# Altium footprint library PcbLib1.PcbLib: 98 footprints (part 6 of 7)
Each footprint in its own frame and in the unit in brackets; x right, y up, seen from the top. Pads: shape width x height; smd on the part's side, far side on the other; paste and mask are expansions set on the pad; w line width, h text height; cw(c..) or ccw(c..) is an arc to the next point about the centre after c.
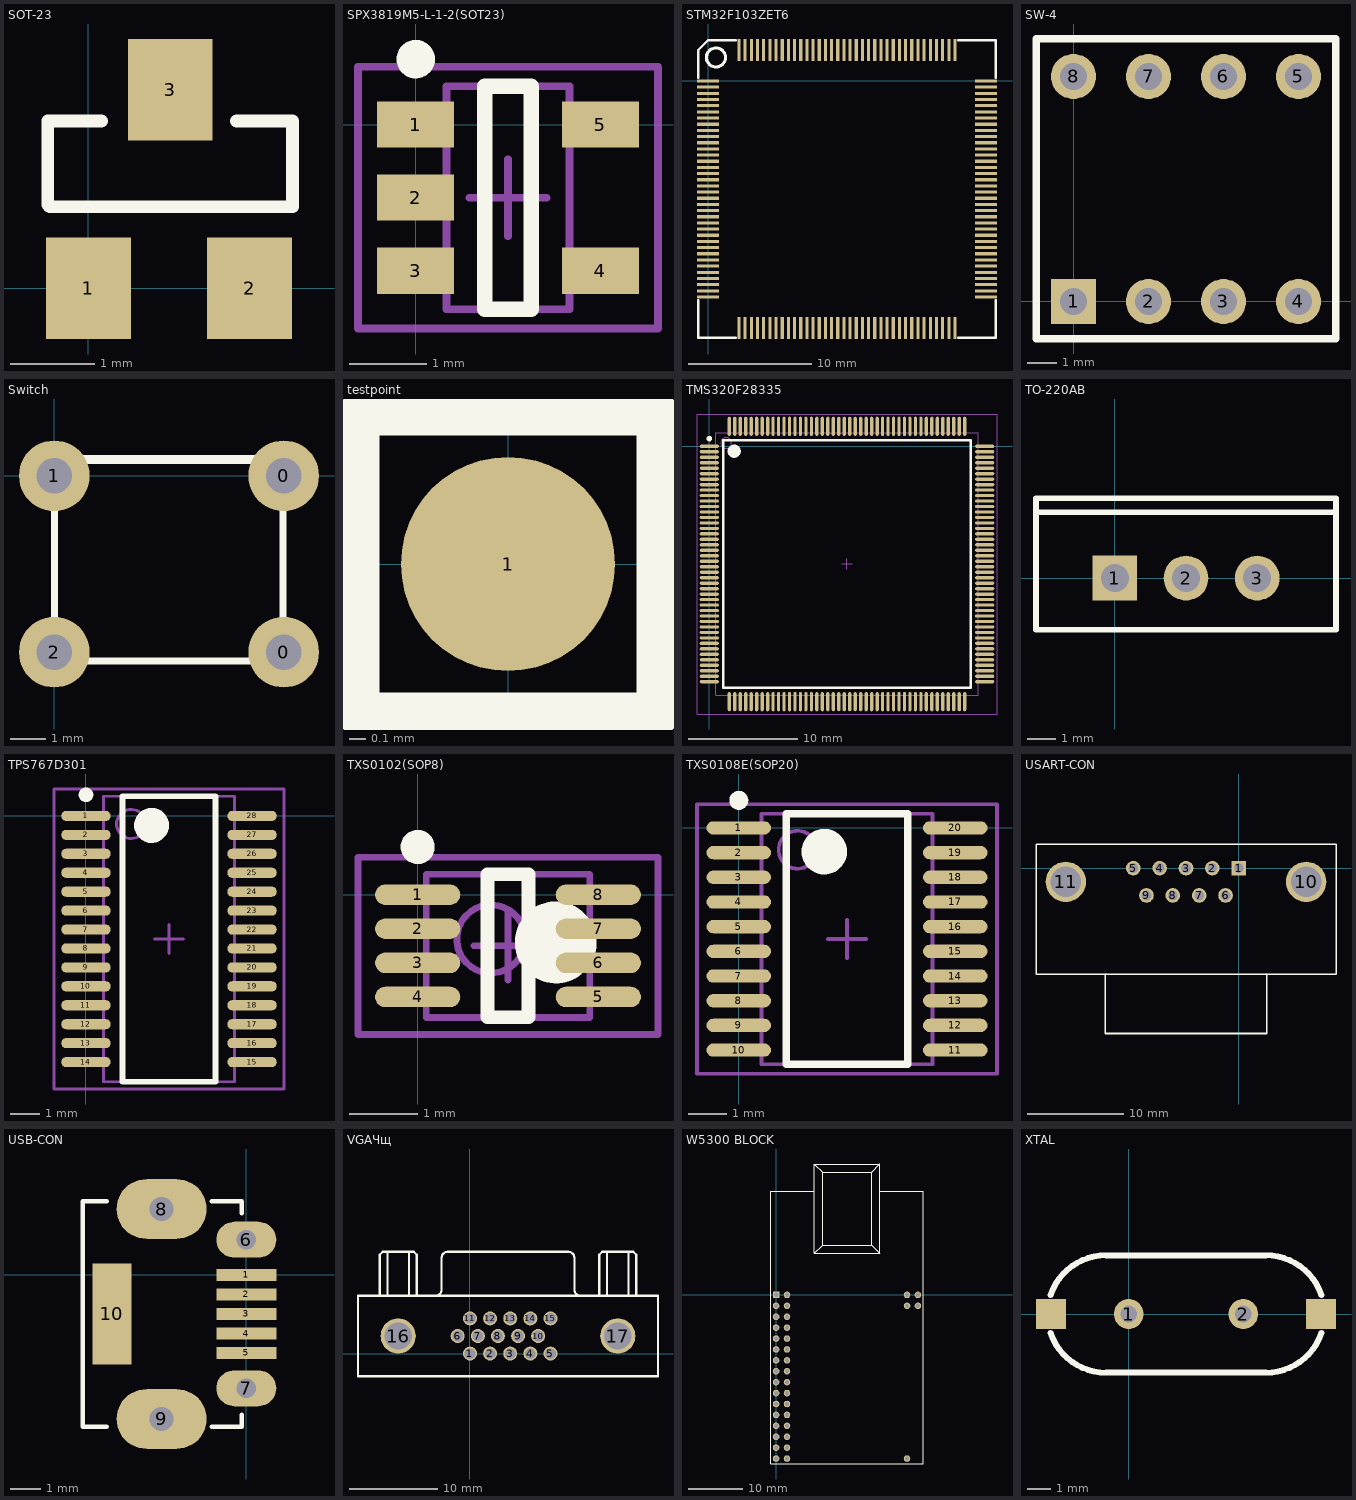
[diagram p5: the footprints below, top view; thin cyan lines are the x and y axes]

## SOT-23 [mm]
pads (3):
  rect 1x1.2 smd: 1(0,0) 2(1.905,0) 3(0.965,2.349)
Top Overlay:
  lines w0.152: 0.152,1.981 -0.483,1.981 -0.483,0.991 -0.457,0.965 2.413,0.965 2.413,1.981 1.753,1.981

## SPX3819M5-L-1-2(SOT23) [mm] "SOT23, 5-Leads, Body 2.9x2.8mm (max), Pitch 0.95mm, IPC Medium Density"
height 1.45
pads (5):
  rect 1x0.6 smd: 1(0,0) 2(0,-0.95) 3(0,-1.9) 4(2.4,-1.9) 5(2.4,0)
Top Overlay:
  circle w0.25: c0,0.85 r0.125
  lines w0.2: 0.9,-2.4 0.9,0.5 1.5,0.5 1.5,-2.4 0.9,-2.4
Mechanical 13:
  lines w0.1: 0.4,-2.4 2,-2.4 2,0.5 0.4,0.5 0.4,-2.4
Mechanical 15:
  lines w0.1: 0.7,-0.95 1.7,-0.95 ; 1.2,-1.45 1.2,-0.45 ; -0.75,-2.65 3.15,-2.65 3.15,0.75 -0.75,0.75 -0.75,-2.65
3D body: height 1.45, standoff 0, extent 0.4,-2.4 2,0.5

## STM32F103ZET6 [mm]
pads (144):
  rect 1.8x0.254 smd: 1(0,0) 2(0,-0.5) 3(0,-1) 4(0,-1.5) 5(0,-2) 6(0,-2.5) 7(0,-3) 8(0,-3.5) 9(0,-4) 10(0,-4.5) 11(0,-5) 12(0,-5.5) 13(0,-6) 14(0,-6.5) 15(0,-7) 16(0,-7.5) 17(0,-8) 18(0,-8.5) 19(0,-9) 20(0,-9.5) 21(0,-10) 22(0,-10.5) 23(0,-11) 24(0,-11.5) 25(0,-12) 26(0,-12.5) 27(0,-13) 28(0,-13.5) 29(0,-14) 30(0,-14.5) 31(0,-15) 32(0,-15.5) 33(0,-16) 34(0,-16.5) 35(0,-17) 36(0,-17.5) 73(22.5,-17.5) 74(22.5,-17) 75(22.5,-16.5) 76(22.5,-16) 77(22.5,-15.5) 78(22.5,-15) 79(22.5,-14.5) 80(22.5,-14) 81(22.5,-13.5) 82(22.5,-13) 83(22.5,-12.5) 84(22.5,-12) 85(22.5,-11.5) 86(22.5,-11) 87(22.5,-10.5) 88(22.5,-10) 89(22.5,-9.5) 90(22.5,-9) 91(22.5,-8.5) 92(22.5,-8) 93(22.5,-7.5) 94(22.5,-7) 95(22.5,-6.5) 96(22.5,-6) 97(22.5,-5.5) 98(22.5,-5) 99(22.5,-4.5) 100(22.5,-4) 101(22.5,-3.5) 102(22.5,-3) 103(22.5,-2.5) 104(22.5,-2) 105(22.5,-1.5) 106(22.5,-1) 107(22.5,-0.5) 108(22.5,0)
  rect 0.254x1.8 smd: 37(2.5,-20) 38(3,-20) 39(3.5,-20) 40(4,-20) 41(4.5,-20) 42(5,-20) 43(5.5,-20) 44(6,-20) 45(6.5,-20) 46(7,-20) 47(7.5,-20) 48(8,-20) 49(8.5,-20) 50(9,-20) 51(9.5,-20) 52(10,-20) 53(10.5,-20) 54(11,-20) 55(11.5,-20) 56(12,-20) 57(12.5,-20) 58(13,-20) 59(13.5,-20) 60(14,-20) 61(14.5,-20) 62(15,-20) 63(15.5,-20) 64(16,-20) 65(16.5,-20) 66(17,-20) 67(17.5,-20) 68(18,-20) 69(18.5,-20) 70(19,-20) 71(19.5,-20) 72(20,-20) 109(20,2.5) 110(19.5,2.5) 111(19,2.5) 112(18.5,2.5) 113(18,2.5) 114(17.5,2.5) 115(17,2.5) 116(16.5,2.5) 117(16,2.5) 118(15.5,2.5) 119(15,2.5) 120(14.5,2.5) 121(14,2.5) 122(13.5,2.5) 123(13,2.5) 124(12.5,2.5) 125(12,2.5) 126(11.5,2.5) 127(11,2.5) 128(10.5,2.5) 129(10,2.5) 130(9.5,2.5) 131(9,2.5) 132(8.5,2.5) 133(8,2.5) 134(7.5,2.5) 135(7,2.5) 136(6.5,2.5) 137(6,2.5) 138(5.5,2.5) 139(5,2.5) 140(4.5,2.5) 141(4,2.5) 142(3.5,2.5) 143(3,2.5) 144(2.5,2.5)
Top Overlay:
  circle w0.254: c0.634,1.904 r0.773
  lines w0.2: -0.8,-17.75 -0.8,-20.8 2.25,-20.8 ; -0.8,0.25 -0.8,2.5 0,3.3 2.25,3.3 ; 20.25,-20.8 23.3,-20.8 23.3,-17.75 ; 20.25,3.3 23.3,3.3 23.3,0.25

## SW-4 [mil]
pads (8):
  rect 60x60 hole 36: 1(0,0)
  round 60 hole 36: 2(100,0) 3(200,0) 4(300,0) 5(300,300) 6(200,300) 7(100,300) 8(0,300)
Top Overlay:
  lines w10: -50,-50 -50,350 350,350 350,-50 -50,-50

## Switch [mm]
pads (4):
  round 2 hole 1: 0(6.5,-5) 0(6.5,0) 1(0,0) 2(0,-5)
Top Overlay:
  lines w0.2: 0,0.461 0,-5.254 6.477,-5.254 6.477,0.461
  lines w0.254: 0,0.461 6.477,0.461

## testpoint [mm]
pads (1):
  round 1.27 smd: 1(0,0)
Top Overlay:
  lines w0.254: -0.889,-0.889 0.889,-0.889 0.889,0.889 -0.889,0.889 -0.889,-0.889

## TMS320F28335 [mm] "TSQFP, 176-Leads, Body 26.2x26.2mm (max), Pitch 0.50mm, IPC Medium Density"
height 1.6
pads (176):
  oval 1.75x0.3 smd: 1(0,0) 2(0,-0.5) 3(0,-1) 4(0,-1.5) 5(0,-2) 6(0,-2.5) 7(0,-3) 8(0,-3.5) 9(0,-4) 10(0,-4.5) 11(0,-5) 12(0,-5.5) 13(0,-6) 14(0,-6.5) 15(0,-7) 16(0,-7.5) 17(0,-8) 18(0,-8.5) 19(0,-9) 20(0,-9.5) 21(0,-10) 22(0,-10.5) 23(0,-11) 24(0,-11.5) 25(0,-12) 26(0,-12.5) 27(0,-13) 28(0,-13.5) 29(0,-14) 30(0,-14.5) 31(0,-15) 32(0,-15.5) 33(0,-16) 34(0,-16.5) 35(0,-17) 36(0,-17.5) 37(0,-18) 38(0,-18.5) 39(0,-19) 40(0,-19.5) 41(0,-20) 42(0,-20.5) 43(0,-21) 44(0,-21.5) 89(25.15,-21.5) 90(25.15,-21) 91(25.15,-20.5) 92(25.15,-20) 93(25.15,-19.5) 94(25.15,-19) 95(25.15,-18.5) 96(25.15,-18) 97(25.15,-17.5) 98(25.15,-17) 99(25.15,-16.5) 100(25.15,-16) 101(25.15,-15.5) 102(25.15,-15) 103(25.15,-14.5) 104(25.15,-14) 105(25.15,-13.5) 106(25.15,-13) 107(25.15,-12.5) 108(25.15,-12) 109(25.15,-11.5) 110(25.15,-11) 111(25.15,-10.5) 112(25.15,-10) 113(25.15,-9.5) 114(25.15,-9) 115(25.15,-8.5) 116(25.15,-8) 117(25.15,-7.5) 118(25.15,-7) 119(25.15,-6.5) 120(25.15,-6) 121(25.15,-5.5) 122(25.15,-5) 123(25.15,-4.5) 124(25.15,-4) 125(25.15,-3.5) 126(25.15,-3) 127(25.15,-2.5) 128(25.15,-2) 129(25.15,-1.5) 130(25.15,-1) 131(25.15,-0.5) 132(25.15,0)
  oval 0.3x1.75 smd: 45(1.825,-23.325) 46(2.325,-23.325) 47(2.825,-23.325) 48(3.325,-23.325) 49(3.825,-23.325) 50(4.325,-23.325) 51(4.825,-23.325) 52(5.325,-23.325) 53(5.825,-23.325) 54(6.325,-23.325) 55(6.825,-23.325) 56(7.325,-23.325) 57(7.825,-23.325) 58(8.325,-23.325) 59(8.825,-23.325) 60(9.325,-23.325) 61(9.825,-23.325) 62(10.325,-23.325) 63(10.825,-23.325) 64(11.325,-23.325) 65(11.825,-23.325) 66(12.325,-23.325) 67(12.825,-23.325) 68(13.325,-23.325) 69(13.825,-23.325) 70(14.325,-23.325) 71(14.825,-23.325) 72(15.325,-23.325) 73(15.825,-23.325) 74(16.325,-23.325) 75(16.825,-23.325) 76(17.325,-23.325) 77(17.825,-23.325) 78(18.325,-23.325) 79(18.825,-23.325) 80(19.325,-23.325) 81(19.825,-23.325) 82(20.325,-23.325) 83(20.825,-23.325) 84(21.325,-23.325) 85(21.825,-23.325) 86(22.325,-23.325) 87(22.825,-23.325) 88(23.325,-23.325) 133(23.325,1.825) 134(22.825,1.825) 135(22.325,1.825) 136(21.825,1.825) 137(21.325,1.825) 138(20.825,1.825) 139(20.325,1.825) 140(19.825,1.825) 141(19.325,1.825) 142(18.825,1.825) 143(18.325,1.825) 144(17.825,1.825) 145(17.325,1.825) 146(16.825,1.825) 147(16.325,1.825) 148(15.825,1.825) 149(15.325,1.825) 150(14.825,1.825) 151(14.325,1.825) 152(13.825,1.825) 153(13.325,1.825) 154(12.825,1.825) 155(12.325,1.825) 156(11.825,1.825) 157(11.325,1.825) 158(10.825,1.825) 159(10.325,1.825) 160(9.825,1.825) 161(9.325,1.825) 162(8.825,1.825) 163(8.325,1.825) 164(7.825,1.825) 165(7.325,1.825) 166(6.825,1.825) 167(6.325,1.825) 168(5.825,1.825) 169(5.325,1.825) 170(4.825,1.825) 171(4.325,1.825) 172(3.825,1.825) 173(3.325,1.825) 174(2.825,1.825) 175(2.325,1.825) 176(1.825,1.825)
Top Overlay:
  circle w0.6: c2.275,-0.45 r0.3
  circle w0.25: c0,0.7 r0.125
  lines w0.2: 1.275,-22.05 23.875,-22.05 23.875,0.55 1.275,0.55 1.275,-22.05
Mechanical 13:
  circle w0.1: c1.525,0.3 r0.5
  lines w0.1: 0.575,-22.75 24.575,-22.75 24.575,1.25 0.575,1.25 0.575,-22.75
Mechanical 15:
  lines w0.1: 12.075,-10.75 13.075,-10.75 ; 12.575,-11.25 12.575,-10.25 ; -1.125,-24.45 26.275,-24.45 26.275,2.95 -1.125,2.95 -1.125,-24.45
3D body: height 1.6, standoff 0.25, extent 0.575,-22.75 24.575,1.25

## TO-220AB [mm]
pads (3):
  rect 1.6x1.6 hole 1: 1(0,0)
  round 1.6 hole 1: 2(2.54,0) 3(5.08,0)
Top Overlay:
  lines w0.2: -2.81,2.35 7.89,2.35 ; -2.81,-1.85 -2.81,2.85 7.89,2.85 7.89,-1.85 -2.81,-1.85

## TPS767D301 [mm] "TSOP, 28-Leads, Body 9.8x4.5mm (max), Pitch 0.65mm, IPC Medium Density"
height 1.2
pads (28):
  oval 1.7x0.35 smd: 1(0,0) 2(0,-0.65) 3(0,-1.3) 4(0,-1.95) 5(0,-2.6) 6(0,-3.25) 7(0,-3.9) 8(0,-4.55) 9(0,-5.2) 10(0,-5.85) 11(0,-6.5) 12(0,-7.15) 13(0,-7.8) 14(0,-8.45) 15(5.7,-8.45) 16(5.7,-7.8) 17(5.7,-7.15) 18(5.7,-6.5) 19(5.7,-5.85) 20(5.7,-5.2) 21(5.7,-4.55) 22(5.7,-3.9) 23(5.7,-3.25) 24(5.7,-2.6) 25(5.7,-1.95) 26(5.7,-1.3) 27(5.7,-0.65) 28(5.7,0)
Top Overlay:
  circle w0.6: c2.25,-0.325 r0.3
  circle w0.25: c0,0.725 r0.125
  lines w0.2: 1.25,-9.125 4.45,-9.125 4.45,0.675 1.25,0.675 1.25,-9.125
Mechanical 13:
  circle w0.1: c1.55,-0.275 r0.5
  lines w0.1: 0.6,-9.125 5.1,-9.125 5.1,0.675 0.6,0.675 0.6,-9.125
Mechanical 15:
  lines w0.1: 2.35,-4.225 3.35,-4.225 ; 2.85,-4.725 2.85,-3.725 ; -1.1,-9.375 6.8,-9.375 6.8,0.925 -1.1,0.925 -1.1,-9.375
3D body: height 1.2, standoff 0.1, extent 0.6,-9.125 5.1,0.675

## TXS0102(SOP8) [mm] "SSOP, 8-Leads, Body 2.1x2.4mm (max), Pitch 0.50mm, IPC Medium Density"
height 2.65
pads (8):
  oval 1.25x0.3 smd: 1(0,0) 2(0,-0.5) 3(0,-1) 4(0,-1.5) 5(2.65,-1.5) 6(2.65,-1) 7(2.65,-0.5) 8(2.65,0)
Top Overlay:
  circle w0.6: c2.025,-0.7 r0.3
  circle w0.25: c0,0.7 r0.125
  lines w0.2: 1.025,-1.8 1.625,-1.8 1.625,0.3 1.025,0.3 1.025,-1.8
Mechanical 13:
  circle w0.1: c1.075,-0.65 r0.5
  lines w0.1: 0.125,-1.8 2.525,-1.8 2.525,0.3 0.125,0.3 0.125,-1.8
Mechanical 15:
  lines w0.1: 0.825,-0.75 1.825,-0.75 ; 1.325,-1.25 1.325,-0.25 ; -0.875,-2.05 3.525,-2.05 3.525,0.55 -0.875,0.55 -0.875,-2.05
3D body: height 2.65, standoff 0.1, extent 0.125,-1.8 2.525,0.3

## TXS0108E(SOP20) [mm] "SOP, 20-Leads, Body 6.6x4.5mm (max), Pitch 0.65mm, IPC Medium Density"
height 2.65
pads (20):
  oval 1.7x0.35 smd: 1(0,0) 2(0,-0.65) 3(0,-1.3) 4(0,-1.95) 5(0,-2.6) 6(0,-3.25) 7(0,-3.9) 8(0,-4.55) 9(0,-5.2) 10(0,-5.85) 11(5.7,-5.85) 12(5.7,-5.2) 13(5.7,-4.55) 14(5.7,-3.9) 15(5.7,-3.25) 16(5.7,-2.6) 17(5.7,-1.95) 18(5.7,-1.3) 19(5.7,-0.65) 20(5.7,0)
Top Overlay:
  circle w0.6: c2.25,-0.625 r0.3
  circle w0.25: c0,0.725 r0.125
  lines w0.2: 1.25,-6.225 4.45,-6.225 4.45,0.375 1.25,0.375 1.25,-6.225
Mechanical 13:
  circle w0.1: c1.55,-0.575 r0.5
  lines w0.1: 0.6,-6.225 5.1,-6.225 5.1,0.375 0.6,0.375 0.6,-6.225
Mechanical 15:
  lines w0.1: 2.35,-2.925 3.35,-2.925 ; 2.85,-3.425 2.85,-2.425 ; -1.1,-6.475 6.8,-6.475 6.8,0.625 -1.1,0.625 -1.1,-6.475
3D body: height 2.65, standoff 0.1, extent 0.6,-6.225 5.1,0.375

## USART-CON [mil]
pads (11):
  rect 60x60 / inner round 60 / far side rect 60x60 hole 40: 1(0,0)
  round 60 hole 40: 2(-107.87,0) 3(-215.75,0) 4(-323.62,0) 5(-431.5,0) 6(-53.94,-111.81) 7(-161.81,-111.81) 8(-269.69,-111.81) 9(-377.56,-111.81)
  round 165.35 / inner round 60 / far side round 165.35 hole 125.98: 10(276.38,-55.91) 11(-707.87,-55.91)
Top Overlay:
  lines w6: -829.92,-433.86 398.43,-433.86 398.43,97.64 -829.92,97.64 -829.92,-433.86
  lines w7.87: -546.46,-433.86 -546.46,-677.95 114.96,-677.95 114.96,-433.86

## USB-CON [mm] "MICROUSB-B-H4"
pads (10):
  rect 2x0.4 smd: 1(0,0) 2(0,-0.65) 3(0,-1.3) 4(0,-1.95) 5(0,-2.6)
  oval 2x1.2 / inner round 1.524 / far side oval 2x1.2 hole 0.65: 6(0,1.175) 7(0,-3.775)
  oval 3x2 / inner round 1.524 / far side oval 3x2 hole 0.8: 8(-2.825,2.2) 9(-2.825,-4.8)
  rect 1.3x3.35 smd: 10(-4.48,-1.3)
Top Overlay:
  lines w0.15: -4.65,-5.05 -5.45,-5.05 -5.45,2.45 -4.65,2.45 ; -1.15,-5.05 -0.15,-5.05 -0.15,-4.65 ; -1.15,2.45 -0.15,2.45 -0.15,2.05

## VGAЧщ [mm]
pads (17):
  round 1.6 hole 1.2: 1(0,0) 2(2.29,0) 3(4.58,0) 4(6.87,0) 5(9.16,0) 6(-1.399,2) 7(0.891,2) 8(3.181,2) 9(5.471,2) 10(7.761,2) 11(0,4) 12(2.29,4) 13(4.58,4) 14(6.87,4) 15(9.16,4)
  round 4 hole 3.1: 16(-8.169,2) 17(16.821,2)
Top Overlay:
  lines w0.254: -10.279,6.575 -10.279,11.242 -9.938,11.582 -8.169,11.582 -6.399,11.582 -6.059,11.242 -6.059,6.575 ; -9.39,6.575 -9.39,11.582 ; -6.948,6.575 -6.948,11.582 ; -3.929,6.575 ccw(c-3.929,7.27) -3.234,7.27 -3.234,10.887 cw(c-2.539,10.887) -2.539,11.582 4.326,11.582 11.191,11.582 cw(c11.191,10.887) 11.886,10.887 11.886,7.27 ccw(c12.581,7.27) 12.581,6.575 ; 14.711,6.572 14.711,11.239 15.051,11.579 16.821,11.579 18.591,11.579 18.931,11.239 18.931,6.572 ; 15.6,6.572 15.6,11.579 ; 18.042,6.572 18.042,11.579 ; -12.744,-2.575 -12.744,2 -12.744,6.575 21.396,6.575 21.396,2 21.396,-2.575 -12.744,-2.575

## W5300 BLOCK [mm]
pads (37):
  rect 1.2x1.2 hole 0.8: 1(0,0)
  round 1.2 hole 0.8: 2(2,0) 3(0,-2) 4(2,-2) 5(0,-4) 6(2,-4) 7(0,-6) 8(2,-6) 9(0,-8) 10(2,-8) 11(0,-10) 12(2,-10) 13(0,-12) 14(2,-12) 15(0,-14) 16(2,-14) 17(0,-16) 18(2,-16) 19(0,-18) 20(2,-18) 21(0,-20) 22(2,-20) 23(0,-22) 24(2,-22) 25(0,-24) 26(2,-24) 27(0,-26) 28(2,-26) 29(0,-28) 30(2,-28) 31(0,-30) 32(2,-30) 33(24,0) 34(26,0) 35(24.003,-2) 36(26,-2) 63(24,-30)
Top Overlay:
  lines w0.178: -1,-31 -1,19 6.95,19 ; 17.476,22.476 8.509,22.476 ; 17.511,9.129 8.509,9.129 ; 18.985,23.985 7,23.985 ; 19.05,19 27,19 ; 7,7.62 7,23.985 ; 7,7.62 19,7.62 ; 7,7.62 8.509,9.129 ; 7,23.985 8.509,22.476 ; 8.509,9.129 8.509,22.476 ; 19,7.62 19,24 17.526,22.526 17.526,9.094 19,7.62
  lines w0.2: -1,-31 27,-31 27,19

## XTAL [mil]
pads (4):
  round 50 hole 28: 1(0,0) 2(192.13,0)
  rect 50x50 smd: ""(-130.32,0) ""(322.44,0)
Top Overlay:
  lines w10: -130.92,-31.85 ccw(c-37.79,0) -37.79,-98.42 ; -130.92,31.85 cw(c-37.79,0) -37.79,98.43 ; -38,98.42 229.92,98.43 cw(c229.92,0) 323.05,31.85 ; -37.8,-98.43 229.92,-98.42 ccw(c229.92,0) 323.05,-31.85